# EAGLE library part CON-80P (library Connectors)
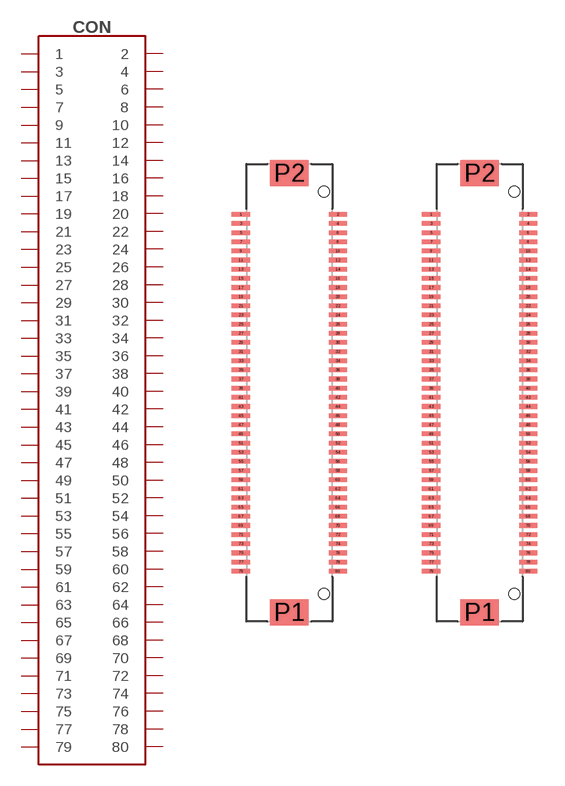
[diagram p6: symbol with the pads of DF17(3.0H)-80DS-0.5V; footprints DF17(3.0H)-80DS-0.5V, DF17(3.0)-80DS-0.5V]

Designator prefix CON

## CON-80P-DF17(3.0H)-80DS (MANF: HIROSE; MANF#: DF17(3.0H)-80DS-0.5V(57))  [DF17(3.0H)-80DS-0.5V]
1  1
2  2
3  3
4  4
5  5
6  6
7  7
8  8
9  9
10  10
11  11
12  12
13  13
14  14
15  15
16  16
17  17
18  18
19  19
20  20
21  21
22  22
23  23
24  24
25  25
26  26
27  27
28  28
29  29
30  30
31  31
32  32
33  33
34  34
35  35
36  36
37  37
38  38
39  39
40  40
41  41
42  42
43  43
44  44
45  45
46  46
47  47
48  48
49  49
50  50
51  51
52  52
53  53
54  54
55  55
56  56
57  57
58  58
59  59
60  60
61  61
62  62
63  63
64  64
65  65
66  66
67  67
68  68
69  69
70  70
71  71
72  72
73  73
74  74
75  75
76  76
77  77
78  78
79  79
80  80

## CON-80P-DF17(3.0)-80DS (MANF: HIROSE; MANF#: DF17(3.0)-80DS-0.5V(57))  [DF17(3.0)-80DS-0.5V]
Pads as for DF17(3.0H)-80DS-0.5V

## CON-80P-DF17(1.0H)-80DP-0.5V (MANF: HIROSE; MANF#: DF17(1.0H)-80DP-0.5V(57))  [DF17(1.0H)-80DP-0.5V]
Pads as for DF17(3.0H)-80DS-0.5V

## Footprint DF17(3.0H)-80DS-0.5V (pad centres in mm)
Datasheet <https://www.hirose.com/ru/product/document?clcode=CL0683-0369-7-57&productname=DF17(3.0H)-80DS-0.5V(57)&series=DF17&documenttype=2DDrawing&lang=ru&documentid=0000996424>
smd 1 x 0.25: 1 -2.65,9.75; 2 2.65,9.75; 3 -2.65,9.25; 4 2.65,9.25; 5 -2.65,8.75; 6 2.65,8.75; 7 -2.65,8.25; 8 2.65,8.25; 9 -2.65,7.75; 10 2.65,7.75; 11 -2.65,7.25; 12 2.65,7.25; 13 -2.65,6.75; 14 2.65,6.75; 15 -2.65,6.25; 16 2.65,6.25; 17 -2.65,5.75; 18 2.65,5.75; 19 -2.65,5.25; 20 2.65,5.25; 21 -2.65,4.75; 22 2.65,4.75; 23 -2.65,4.25; 24 2.65,4.25; 25 -2.65,3.75; 26 2.65,3.75; 27 -2.65,3.25; 28 2.65,3.25; 29 -2.65,2.75; 30 2.65,2.75; 31 -2.65,2.25; 32 2.65,2.25; 33 -2.65,1.75; 34 2.65,1.75; 35 -2.65,1.25; 36 2.65,1.25; 37 -2.65,0.75; 38 2.65,0.75; 39 -2.65,0.25; 40 2.65,0.25; 41 -2.65,-0.25; 42 2.65,-0.25; 43 -2.65,-0.75; 44 2.65,-0.75; 45 -2.65,-1.25; 46 2.65,-1.25; 47 -2.65,-1.75; 48 2.65,-1.75; 49 -2.65,-2.25; 50 2.65,-2.25; 51 -2.65,-2.75; 52 2.65,-2.75; 53 -2.65,-3.25; 54 2.65,-3.25; 55 -2.65,-3.75; 56 2.65,-3.75; 57 -2.65,-4.25; 58 2.65,-4.25; 59 -2.65,-4.75; 60 2.65,-4.75; 61 -2.65,-5.25; 62 2.65,-5.25; 63 -2.65,-5.75; 64 2.65,-5.75; 65 -2.65,-6.25; 66 2.65,-6.25; 67 -2.65,-6.75; 68 2.65,-6.75; 69 -2.65,-7.25; 70 2.65,-7.25; 71 -2.65,-7.75; 72 2.65,-7.75; 73 -2.65,-8.25; 74 2.65,-8.25; 75 -2.65,-8.75; 76 2.65,-8.75; 77 -2.65,-9.25; 78 2.65,-9.25; 79 -2.65,-9.75; 80 2.65,-9.75
smd 2.1 x 1.4: P1 0,-12; P2 0,12
hole 0.6 at 1.9,-11
hole 0.6 at 1.9,11

## Footprint DF17(3.0)-80DS-0.5V (pad centres in mm)
Datasheet <https://www.hirose.com/ru/product/document?clcode=CL0683-0369-7-57&productname=DF17(3.0H)-80DS-0.5V(57)&series=DF17&documenttype=2DDrawing&lang=ru&documentid=0000996424>
smd 1 x 0.25: 1 -2.65,9.75; 2 2.65,9.75; 3 -2.65,9.25; 4 2.65,9.25; 5 -2.65,8.75; 6 2.65,8.75; 7 -2.65,8.25; 8 2.65,8.25; 9 -2.65,7.75; 10 2.65,7.75; 11 -2.65,7.25; 12 2.65,7.25; 13 -2.65,6.75; 14 2.65,6.75; 15 -2.65,6.25; 16 2.65,6.25; 17 -2.65,5.75; 18 2.65,5.75; 19 -2.65,5.25; 20 2.65,5.25; 21 -2.65,4.75; 22 2.65,4.75; 23 -2.65,4.25; 24 2.65,4.25; 25 -2.65,3.75; 26 2.65,3.75; 27 -2.65,3.25; 28 2.65,3.25; 29 -2.65,2.75; 30 2.65,2.75; 31 -2.65,2.25; 32 2.65,2.25; 33 -2.65,1.75; 34 2.65,1.75; 35 -2.65,1.25; 36 2.65,1.25; 37 -2.65,0.75; 38 2.65,0.75; 39 -2.65,0.25; 40 2.65,0.25; 41 -2.65,-0.25; 42 2.65,-0.25; 43 -2.65,-0.75; 44 2.65,-0.75; 45 -2.65,-1.25; 46 2.65,-1.25; 47 -2.65,-1.75; 48 2.65,-1.75; 49 -2.65,-2.25; 50 2.65,-2.25; 51 -2.65,-2.75; 52 2.65,-2.75; 53 -2.65,-3.25; 54 2.65,-3.25; 55 -2.65,-3.75; 56 2.65,-3.75; 57 -2.65,-4.25; 58 2.65,-4.25; 59 -2.65,-4.75; 60 2.65,-4.75; 61 -2.65,-5.25; 62 2.65,-5.25; 63 -2.65,-5.75; 64 2.65,-5.75; 65 -2.65,-6.25; 66 2.65,-6.25; 67 -2.65,-6.75; 68 2.65,-6.75; 69 -2.65,-7.25; 70 2.65,-7.25; 71 -2.65,-7.75; 72 2.65,-7.75; 73 -2.65,-8.25; 74 2.65,-8.25; 75 -2.65,-8.75; 76 2.65,-8.75; 77 -2.65,-9.25; 78 2.65,-9.25; 79 -2.65,-9.75; 80 2.65,-9.75
smd 2.1 x 1.4: P1 0,-12; P2 0,12
hole 0.6 at 1.9,-11
hole 0.6 at 1.9,11

## Footprint DF17(1.0H)-80DP-0.5V (pad centres in mm)
Datasheet <https://www.hirose.com/en/product/document?clcode=CL0683-0373-4-57&productname=DF17(1.0H)-80DP-0.5V(57)&series=DF17&documenttype=2DDrawing&lang=en&documentid=0000996696>
smd 1 x 0.25: 1 -2.65,9.75; 2 2.65,9.75; 3 -2.65,9.25; 4 2.65,9.25; 5 -2.65,8.75; 6 2.65,8.75; 7 -2.65,8.25; 8 2.65,8.25; 9 -2.65,7.75; 10 2.65,7.75; 11 -2.65,7.25; 12 2.65,7.25; 13 -2.65,6.75; 14 2.65,6.75; 15 -2.65,6.25; 16 2.65,6.25; 17 -2.65,5.75; 18 2.65,5.75; 19 -2.65,5.25; 20 2.65,5.25; 21 -2.65,4.75; 22 2.65,4.75; 23 -2.65,4.25; 24 2.65,4.25; 25 -2.65,3.75; 26 2.65,3.75; 27 -2.65,3.25; 28 2.65,3.25; 29 -2.65,2.75; 30 2.65,2.75; 31 -2.65,2.25; 32 2.65,2.25; 33 -2.65,1.75; 34 2.65,1.75; 35 -2.65,1.25; 36 2.65,1.25; 37 -2.65,0.75; 38 2.65,0.75; 39 -2.65,0.25; 40 2.65,0.25; 41 -2.65,-0.25; 42 2.65,-0.25; 43 -2.65,-0.75; 44 2.65,-0.75; 45 -2.65,-1.25; 46 2.65,-1.25; 47 -2.65,-1.75; 48 2.65,-1.75; 49 -2.65,-2.25; 50 2.65,-2.25; 51 -2.65,-2.75; 52 2.65,-2.75; 53 -2.65,-3.25; 54 2.65,-3.25; 55 -2.65,-3.75; 56 2.65,-3.75; 57 -2.65,-4.25; 58 2.65,-4.25; 59 -2.65,-4.75; 60 2.65,-4.75; 61 -2.65,-5.25; 62 2.65,-5.25; 63 -2.65,-5.75; 64 2.65,-5.75; 65 -2.65,-6.25; 66 2.65,-6.25; 67 -2.65,-6.75; 68 2.65,-6.75; 69 -2.65,-7.25; 70 2.65,-7.25; 71 -2.65,-7.75; 72 2.65,-7.75; 73 -2.65,-8.25; 74 2.65,-8.25; 75 -2.65,-8.75; 76 2.65,-8.75; 77 -2.65,-9.25; 78 2.65,-9.25; 79 -2.65,-9.75; 80 2.65,-9.75
smd 2.1 x 1.4: P1 0,-12; P2 0,12
hole 0.6 at 1.9,-11
hole 0.6 at 1.9,11